# Altium schematic symbol library Crystals & Oscillators.SchLib: 71 symbols
Pins are listed as number, name and electrical type; pins without a type are passive.

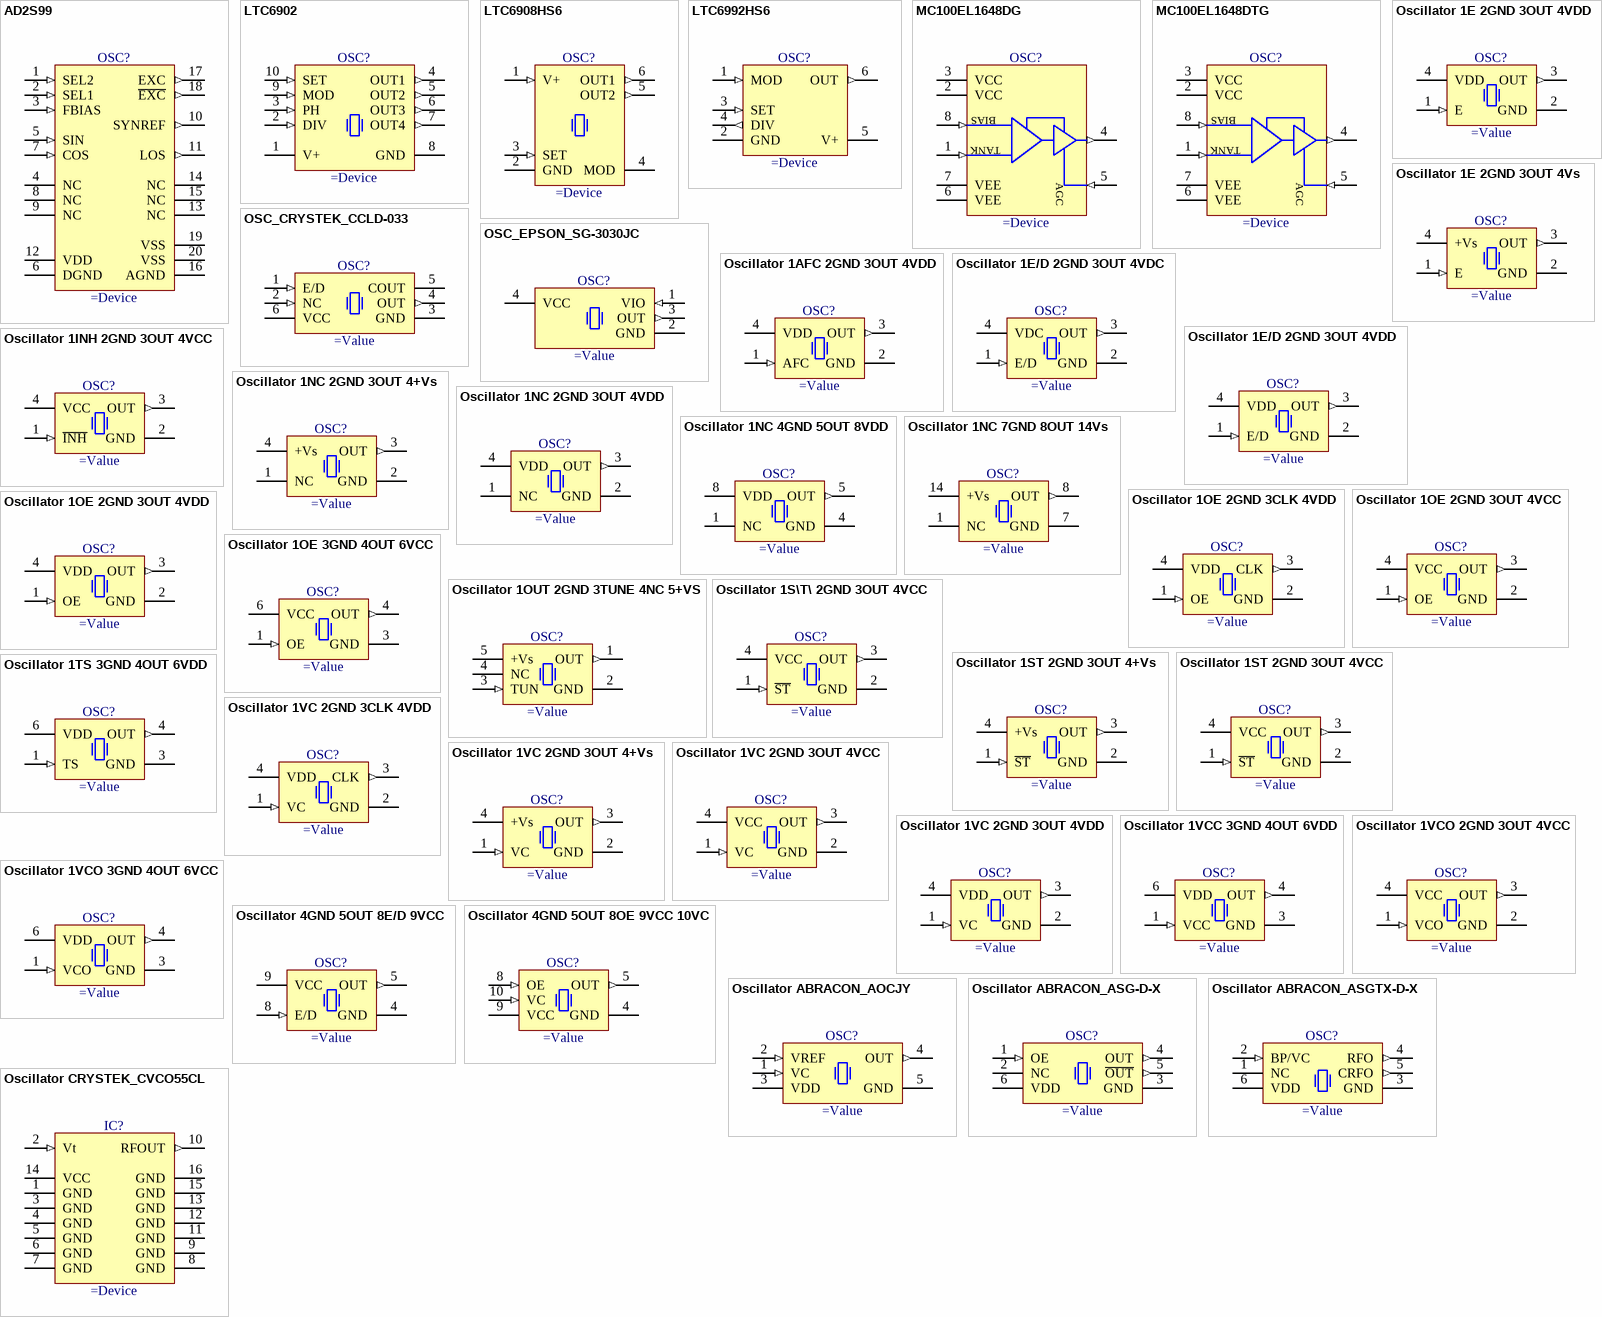
[diagram p0: symbols AD2S99 to Oscillator CRYSTEK_CVCO55CL]

## AD2S99
designator OSC?
Programmable Sinusoidal Oscillator
pins: 1 SEL2 (in), 2 SEL1 (in), 3 FBIAS (in), 4 NC, 5 SIN (in), 6 DGND (power), 7 COS (in), 8 NC, 9 NC, 10 SYNREF (out), 11 LOS (out), 12 VDD (power), 13 NC, 14 NC, 15 NC, 16 AGND (power), 17 EXC (out), 18 ~{EXC} (out), 19 VSS (power), 20 VSS (power)

## LTC6902
designator OSC?
5kHz to 20MHz Multiphase Oscillator with Spread Spectrum Frequency Modulation
pins: 1 V+ (power), 2 DIV (in), 3 PH (in), 4 OUT1 (out), 5 OUT2 (out), 6 OUT3 (out), 7 OUT4 (out), 8 GND (power), 9 MOD (in), 10 SET (in)

## LTC6908HS6
designator OSC?
Resistor Set SOT-23 Oscillator with Spread Spectrum Modulation
pins: 1 V+ (in), 2 GND (power), 3 SET (in), 4 MOD (power), 5 OUT2 (out), 6 OUT1 (out)

## LTC6992HS6
designator OSC?
3.81Hz to 1MHz TimerBlox: Voltage-Controlled Pulse Width Modulator (PWM)
pins: 1 MOD (in), 2 GND (power), 3 SET (in), 4 DIV (out), 5 V+ (power), 6 OUT (out)

## MC100EL1648DG
designator OSC?
5 V ECL Voltage Controlled Oscillator Amplifier
pins: 1 TANK (in), 2 VCC (power), 3 VCC (power), 4 OUT (out), 5 AGC (in), 6 VEE (power), 7 VEE (power), 8 BIAS (in)

## MC100EL1648DTG
designator OSC?
5 V ECL Voltage Controlled Oscillator Amplifier
pins: 1 TANK (in), 2 VCC (power), 3 VCC (power), 4 OUT (out), 5 AGC (in), 6 VEE (power), 7 VEE (power), 8 BIAS (in)

## OSC_CRYSTEK_CCLD-033
designator OSC?
3.3V, ± 50ppm, 0°C to +70°C, Surface Mount LVDS Clock Oscillator (CCLD-033 Series)
pins: 1 E/D (in), 2 NC (in), 3 GND (power), 4 OUT (out), 5 COUT, 6 VCC (power)

## OSC_EPSON_SG-3030JC
designator OSC?
CMOS Surface Mount Crystal Oscillator SPXO, (SG-3030JC Series)
pins: 1 VIO (in), 2 GND (power), 3 OUT (out), 4 VCC (power)

## Oscillator 1AFC 2GND 3OUT 4VDD
designator OSC?
Oscillator 4 pins 1=AFC 2=GND 3=OUT 4=VDD
pins: 1 AFC (in), 2 GND (power), 3 OUT (out), 4 VDD (power)

## Oscillator 1E 2GND 3OUT 4VDD
designator OSC?
Oscillator 4 pins 1=E/D 2=GND 3=OUT 4=VDD
pins: 1 E (in), 2 GND (power), 3 OUT (out), 4 VDD (power)

## Oscillator 1E 2GND 3OUT 4Vs
designator OSC?
Oscillator 4 pins 1=E 2=GND 3=OUT 4=+Vs
pins: 1 E (in), 2 GND (power), 3 OUT (out), 4 +Vs (power)

## Oscillator 1E/D 2GND 3OUT 4VDC
designator OSC?
Oscillator 4 pins 1=E/D 2=GND 3=OUT 4=VDC
pins: 1 E/D (in), 2 GND (power), 3 OUT (out), 4 VDC (power)

## Oscillator 1E/D 2GND 3OUT 4VDD
designator OSC?
Oscillator 4 pins 1=E/D 2=GND 3=OUT 4=VDD
pins: 1 E/D (in), 2 GND (power), 3 OUT (out), 4 VDD (power)

## Oscillator 1INH 2GND 3OUT 4VCC
designator OSC?
Oscillator 4 pins 1=\INH 2=GND 3=OUT 4=VCC
pins: 1 ~{INH} (in), 2 GND (power), 3 OUT (out), 4 VCC (power)

## Oscillator 1NC 2GND 3OUT 4+Vs
designator OSC?
Oscillator 4 pins 1=NC 2=GND 3=OUT 4=+Vs
pins: 1 NC, 2 GND (power), 3 OUT (out), 4 +Vs (power)

## Oscillator 1NC 2GND 3OUT 4VDD
designator OSC?
Oscillator 4 pins 1=NC 2=GND 3=OUT 4=VDD
pins: 1 NC, 2 GND (power), 3 OUT (out), 4 VDD (power)

## Oscillator 1NC 4GND 5OUT 8VDD
designator OSC?
Oscillator 4 pins 1=NC 4=GND 5=OUT 8=+VDD
pins: 1 NC, 4 GND (power), 5 OUT (out), 8 VDD (power)

## Oscillator 1NC 7GND 8OUT 14Vs
designator OSC?
Oscillator 4 pins 1=NC 7=GND 8=OUT 14=+Vs
pins: 1 NC, 7 GND (power), 8 OUT (out), 14 +Vs (power)

## Oscillator 1OE 2GND 3CLK 4VDD
designator OSC?
Oscillator 4 pins 1=OE 2=GND 3=CLK 4=VDD
pins: 1 OE (in), 2 GND (power), 3 CLK (out), 4 VDD (power)

## Oscillator 1OE 2GND 3OUT 4VCC
designator OSC?
Oscillator 4 pins 1=OE 2=GND 3=OUT 4=VCC
pins: 1 OE (in), 2 GND (power), 3 OUT (out), 4 VCC (power)

## Oscillator 1OE 2GND 3OUT 4VDD
designator OSC?
Oscillator 4 pins 1=OE 2=GND 3=OUT 4=VDD
pins: 1 OE (in), 2 GND (power), 3 OUT (out), 4 VDD (power)

## Oscillator 1OE 3GND 4OUT 6VCC
designator OSC?
Oscillator 4 pins 1=OE 3=GND 4=OUT 6=VCC
pins: 1 OE (in), 3 GND (power), 4 OUT (out), 6 VCC (power)

## Oscillator 1OUT 2GND 3TUNE 4NC 5+VS
designator OSC?
Oscillator 4 pins 1=OUT 2=GND 3=TUNE 4=+VS
pins: 1 OUT (out), 2 GND (power), 3 TUN (in), 4 NC, 5 +Vs (power)

## Oscillator 1S\T\ 2GND 3OUT 4VCC
designator OSC?
Oscillator 4 pins 1=S\T\ 2=GND 3=OUT 4=VCC
pins: 1 ~{ST} (in), 2 GND (power), 3 OUT (out), 4 VCC (power)

## Oscillator 1ST 2GND 3OUT 4+Vs
designator OSC?
Oscillator 4 pins 1=\STB 2=GND 3=OUT 4=+Vs
pins: 1 ~{ST} (in), 2 GND (power), 3 OUT (out), 4 +Vs (power)

## Oscillator 1ST 2GND 3OUT 4VCC
designator OSC?
Oscillator 4 pins 1=\ST 2=GND 3=OUT 4=VCC
pins: 1 ~{ST} (in), 2 GND (power), 3 OUT (out), 4 VCC (power)

## Oscillator 1TS 3GND 4OUT 6VDD
designator OSC?
Oscillator 4 pins 1=TS 3=GND 4=OUT 6=VDD
pins: 1 TS (in), 3 GND (power), 4 OUT (out), 6 VDD (power)

## Oscillator 1VC 2GND 3CLK 4VDD
designator OSC?
Oscillator 4 pins 1=VC 2=GND 3=CLK 4=VDD
pins: 1 VC (in), 2 GND (power), 3 CLK (out), 4 VDD (power)

## Oscillator 1VC 2GND 3OUT 4+Vs
designator OSC?
Oscillator 4 pins 1=VC 2=GND 3=OUT 4=+Vs
pins: 1 VC (in), 2 GND (power), 3 OUT (out), 4 +Vs (power)

## Oscillator 1VC 2GND 3OUT 4VCC
designator OSC?
Oscillator 4 pins 1=Voltage Control 2=GND 3=OUT 4=VCC
pins: 1 VC (in), 2 GND (power), 3 OUT (out), 4 VCC (power)

## Oscillator 1VC 2GND 3OUT 4VDD
designator OSC?
Oscillator 4 pins 1=VC 2=GND 3=OUT 4=VDD
pins: 1 VC (in), 2 GND (power), 3 OUT (out), 4 VDD (power)

## Oscillator 1VCC 3GND 4OUT 6VDD
designator OSC?
Oscillator 4 pins 1=VCC 3=GND 4=OUT 6=VDD
pins: 1 VCC (in), 3 GND (power), 4 OUT (out), 6 VDD (power)

## Oscillator 1VCO 2GND 3OUT 4VCC
designator OSC?
Oscillator 4 pins 1=VCO 2=GND 3=OUT 4=VDC
pins: 1 VCO (in), 2 GND (power), 3 OUT (out), 4 VCC (power)

## Oscillator 1VCO 3GND 4OUT 6VCC
designator OSC?
Oscillator 4 pins 1=VCO 3=GND 4=OUT 6=VDC
pins: 1 VCO (in), 3 GND (power), 4 OUT (out), 6 VDD (power)

## Oscillator 4GND 5OUT 8E/D 9VCC
designator OSC?
Oscillator 4 pins 4=GND 5=OUT 8=E/D 9=VCC
pins: 4 GND (power), 5 OUT (out), 8 E/D (in), 9 VCC (power)

## Oscillator 4GND 5OUT 8OE 9VCC 10VC
designator OSC?
Oscillator 4 pins 4=GND 5=OUT 8=OE 9=VCC 10=VC
pins: 4 GND (power), 5 OUT (out), 8 OE (in), 9 VCC (power), 10 VC (in)

## Oscillator ABRACON_AOCJY
designator OSC?
SMD Oven Controlled Crystal Oscillator AICJY Series
pins: 1 VC (in), 2 VREF (in), 3 VDD (power), 4 OUT (out), 5 GND (power)

## Oscillator ABRACON_ASG-D-X
designator OSC?
Programmable - High Performance SMD XO
pins: 1 OE (in), 2 NC, 3 GND (power), 4 OUT (out), 5 ~{OUT} (out), 6 VDD (power)

## Oscillator ABRACON_ASGTX-D-X
designator OSC?
Configurable High Performance Crystal Oscillator (ASGTX Series)
pins: 1 NC, 2 BP/VC (in), 3 GND (power), 4 RFO (out), 5 CRFO (out), 6 VDD (power)

## Oscillator CRYSTEK_CVCO55CL
designator IC?
150 to 200MHz, Voltage Controlled Oscillator (VCO)
pins: 1 GND (power), 2 Vt (in), 3 GND (power), 4 GND (power), 5 GND (power), 6 GND (power), 7 GND (power), 8 GND (power), 9 GND (power), 10 RFOUT (out), 11 GND (power), 12 GND (power), 13 GND (power), 14 VCC (power), 15 GND (power), 16 GND (power)

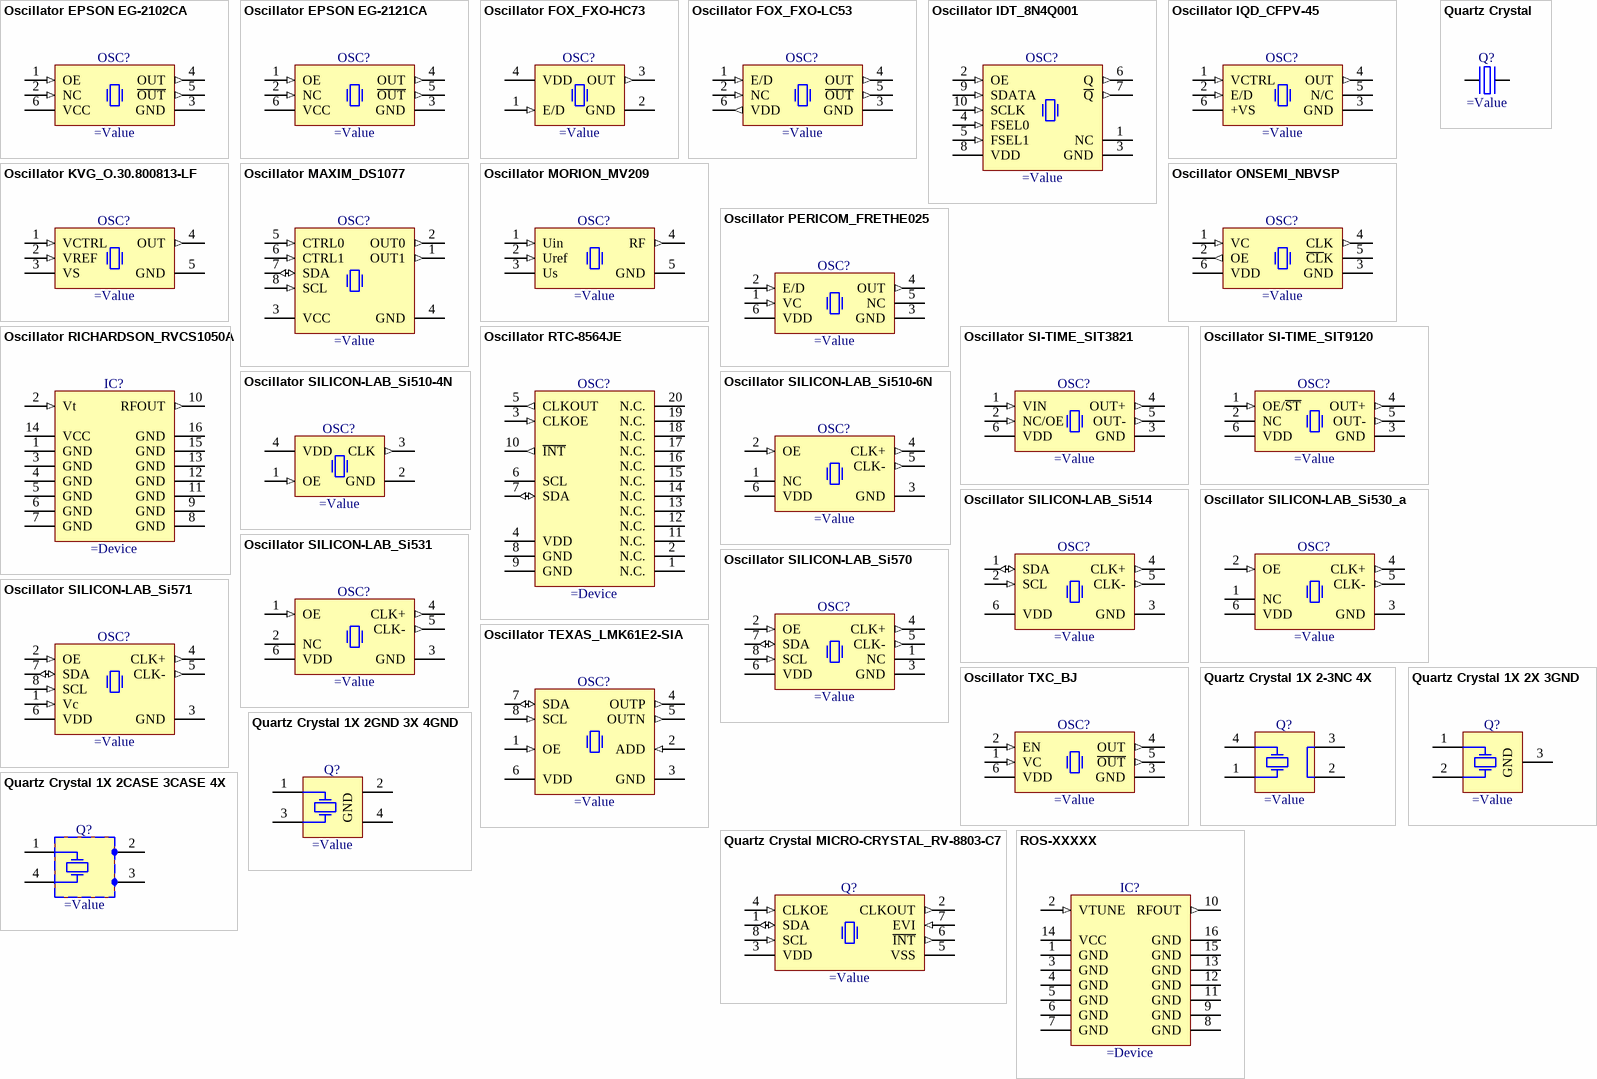
[diagram p1: symbols Oscillator EPSON EG-2102CA to ROS-XXXXX]

## Oscillator EPSON EG-2102CA
designator OSC?
Low-Jitter Saw Oscillator (EG-2102 Serie)
pins: 1 OE (in), 2 NC (in), 3 GND (power), 4 OUT (out), 5 ~{OUT} (out), 6 VCC (power)

## Oscillator EPSON EG-2121CA
designator OSC?
Low-Jitter Saw Oscillator (EG-2121 Serie)
pins: 1 OE (in), 2 NC (in), 3 GND (power), 4 OUT (out), 5 ~{OUT} (out), 6 VCC (power)

## Oscillator FOX_FXO-HC73
designator OSC?
HCMOS Tri-State Surface Mount Oscillator VCXO (FXO-HC73 Serie)
pins: 1 E/D (in), 2 GND (power), 3 OUT (out), 4 VDD (power)

## Oscillator FOX_FXO-LC53
designator OSC?
3.3V, ±25ppm, -40..85°C, LVDS Surface Mount Crystal Oscillator (FXO-LC53 Series)
pins: 1 E/D (in), 2 NC (in), 3 GND (power), 4 OUT (out), 5 ~{OUT} (out), 6 VDD (out)

## Oscillator IDT_8N4Q001
designator OSC?
2.5V ±50ppm  Quad Default Frequency, -40°C to +85°C, 5.5pF, LVDS Crystal Oscillator (XO)
pins: 1 NC, 2 OE (in), 3 GND (power), 4 FSEL0 (in), 5 FSEL1 (in), 6 Q (out), 7 ~{Q} (out), 8 VDD (power), 9 SDATA (in), 10 SCLK (in)

## Oscillator IQD_CFPV-45
designator OSC?
3.3V ±100ppm 15pF HCMOS Tri-State Surface Mount Voltage Controlled Oscillator VCXO (CFPV-45 Serie)
pins: 1 VCTRL (in), 2 E/D (in), 3 GND (power), 4 OUT (out), 5 N/C, 6 +VS (power)

## Oscillator KVG_O.30.800813-LF
designator OSC?
12V ±0.05ppm Oven Controlled Crystal Oscillator OCXO
pins: 1 VCTRL (in), 2 VREF (in), 3 VS (power), 4 OUT (out), 5 GND (power)

## Oscillator MAXIM_DS1077
designator OSC?
I2C Programmable Oscillator DS1077 Serie
pins: 1 OUT1 (out), 2 OUT0 (out), 3 VCC (power), 4 GND (power), 5 CTRL0 (in), 6 CTRL1 (in), 7 SDA (io), 8 SCL (in)

## Oscillator MORION_MV209
designator OSC?
12V ±0.05ppm Oven Controlled Crystal Oscillator OCXO
pins: 1 Uin (in), 2 Uref (in), 3 Us (power), 4 RF (out), 5 GND (power)

## Oscillator ONSEMI_NBVSP
designator OSC?
3.3V, ±50ppm, 7x5mm Surface Mount LVDS Voltage Controlled Oscillator VCXO, NBVSP Series
pins: 1 VC (in), 2 OE (out), 3 GND (power), 4 CLK (out), 5 ~{CL}K, 6 VDD (power)

## Oscillator PERICOM_FRETHE025
designator OSC?
3.3V CMOS 25.000MHz Ethernet VCXO
pins: 1 VC (in), 2 E/D (in), 3 GND (power), 4 OUT (out), 5 NC, 6 VDD (power)

## Oscillator RICHARDSON_RVCS1050A
designator IC?
Frequency Range 900 to 1200 MHz, Voltage Controlled Oscillator (VCO)
pins: 1 GND (power), 2 Vt (in), 3 GND (power), 4 GND (power), 5 GND (power), 6 GND (power), 7 GND (power), 8 GND (power), 9 GND (power), 10 RFOUT (out), 11 GND (power), 12 GND (power), 13 GND (power), 14 VCC (power), 15 GND (power), 16 GND (power)

## Oscillator RTC-8564JE
designator OSC?
Real Time Clock Module
pins: 1 N.C., 2 N.C., 3 CLKOE (in), 4 VDD (power), 5 CLKOUT (out), 6 SCL (hiz), 7 SDA (io), 8 GND (power), 9 GND (power), 10 ~{INT} (out), 11 N.C., 12 N.C., 13 N.C., 14 N.C., 15 N.C., 16 N.C., 17 N.C., 18 N.C., 19 N.C., 20 N.C.

## Oscillator SI-TIME_SIT3821
designator OSC?
1-200MHz High Performance Differential VCXO
pins: 1 VIN (in), 2 NC/OE (in), 3 GND (power), 4 OUT+ (out), 5 OUT- (out), 6 VDD (power)

## Oscillator SI-TIME_SIT9120
designator OSC?
Standard Frequency Differential Oscillator
pins: 1 OE/~{ST} (in), 2 NC, 3 GND (power), 4 OUT+ (out), 5 OUT- (out), 6 VDD (power)

## Oscillator SILICON-LAB_Si510-4N
designator OSC?
Crystal Oscillator 4 pins, Si510 (CMOS)
pins: 1 OE (in), 2 GND (power), 3 CLK (out), 4 VDD (power)

## Oscillator SILICON-LAB_Si510-6N
designator OSC?
Crystal Oscillator 6 pins, Si510 (LVDS/LVPECL/HCSL/Dual CMOS)
pins: 1 NC, 2 OE (in), 3 GND (power), 4 CLK+ (out), 5 CLK- (out), 6 VDD (power)

## Oscillator SILICON-LAB_Si514
designator OSC?
Any-Rate I2C Programmable XO Oscillator Si514 Serie
pins: 1 SDA (io), 2 SCL (in), 3 GND (power), 4 CLK+ (out), 5 CLK- (out), 6 VDD (power)

## Oscillator SILICON-LAB_Si530_a
designator OSC?
10-1400MHz, Crystal Oscillator (XO), Si530 Series
pins: 1 NC, 2 OE (in), 3 GND (power), 4 CLK+ (out), 5 CLK- (out), 6 VDD (power)

## Oscillator SILICON-LAB_Si531
designator OSC?
10-1400MHz, Crystal Oscillator (XO), Si531 Series
pins: 1 OE (in), 2 NC, 3 GND (power), 4 CLK+ (out), 5 CLK- (out), 6 VDD (power)

## Oscillator SILICON-LAB_Si570
designator OSC?
Any-Rate I2C Programmable XO Oscillator Si570 Serie
pins: 1 NC, 2 OE (in), 3 GND (power), 4 CLK+ (out), 5 CLK- (out), 6 VDD (power), 7 SDA (io), 8 SCL (in)

## Oscillator SILICON-LAB_Si571
designator OSC?
Any-Rate I2C Programmable XO Oscillator Si571 Serie
pins: 1 Vc (in), 2 OE (in), 3 GND (power), 4 CLK+ (out), 5 CLK- (out), 6 VDD (power), 7 SDA (io), 8 SCL (in)

## Oscillator TEXAS_LMK61E2-SIA
designator OSC?
10-1000MHz 3.3V ±50ppm, Ultra-Low Jitter Programmable Oscillator With Internal EEPROM
pins: 1 OE (in), 2 ADD (in), 3 GND (power), 4 OUTP (out), 5 OUTN (out), 6 VDD (power), 7 SDA (io), 8 SCL (in)

## Oscillator TXC_BJ
designator OSC?
3.3V LVPECL VCXO
pins: 1 VC (in), 2 EN (in), 3 GND (power), 4 OUT (out), 5 ~{OUT} (out), 6 VDD (power)

## Quartz Crystal
designator Q?
Quartz Crystal
pins: 1 OSC1, 2 OSC2

## Quartz Crystal 1X 2-3NC 4X
designator Q?
Crystal 4 pins 1=XTAL Control 2 And 3=NC 4=XTAL
pins: 1 X, 2 GND (power), 3 GND (power), 4 X

## Quartz Crystal 1X 2CASE 3CASE 4X
designator Q?
Crystal 4 pins 1=XTAL Control 2=CASE 3=CASE 4=XTAL
pins: 1 X, 2 GND (power), 3 GND (power), 4 X

## Quartz Crystal 1X 2GND 3X 4GND
designator Q?
Crystal 4 pins 1=XTAL Control 2=GND3=XTAL 4=GND
pins: 1 X, 2 GND (power), 3 X, 4 GND (power)

## Quartz Crystal 1X 2X 3GND
designator Q?
Crystal 3 pins 1=XTAL 2=XTAL 3=GND
pins: 1 X, 2 X, 3 GND (power)

## Quartz Crystal MICRO-CRYSTAL_RV-8803-C7
designator Q?
Tolerance: ± 20ppm, Temp Compensated ±3 ppm -40°C to +85°C, Surface Mount Crystal Chip
pins: 1 SDA (io), 2 CLKOUT (out), 3 VDD (power), 4 CLKOE (in), 5 VSS (power), 6 ~{INT} (out), 7 EVI (in), 8 SCL (in)

## ROS-XXXXX
designator IC?
MINI-CIRCUITS Ultra Low Noise Voltage Controlled Oscillator
pins: 1 GND (power), 2 VTUNE (in), 3 GND (power), 4 GND (power), 5 GND (power), 6 GND (power), 7 GND (power), 8 GND (power), 9 GND (power), 10 RFOUT (out), 11 GND (power), 12 GND (power), 13 GND (power), 14 VCC (power), 15 GND (power), 16 GND (power)